# Altium schematic symbol library RP73PF1J1K0BTDF.SchLib: 1 symbol
Pins are listed as number, name and electrical type; pins without a type are passive.

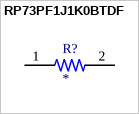
[diagram p0: symbol RP73PF1J1K0BTDF]

## RP73PF1J1K0BTDF
designator R?
Thin Film Fixed Resistor 0603 Case 1kOhm +/-0.1% 0.166W +/-25ppm/degC; MF: {'manufacturer': u'TE Connectivity'}; MP: RP73PF1J1K0BTDF; Price: None; Availability: Unavailable; Package: None; Value: *
footprint RESC1608X50N
pins: 1, 2